# Altium schematic symbol library U_FT232RL.SchLib: 1 symbol
Pins are listed as number, name and electrical type; pins without a type are passive.

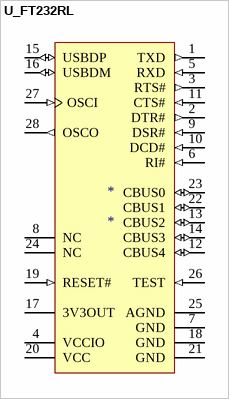
[diagram p0: symbol U_FT232RL]

## U_FT232RL
designator *
pins: 1 TXD (out) "Transmit Asynchronous Data Output", 2 DTR# (out) "Data Terminal Ready Control Output / Handshake signal", 3 RTS# (out) "Request To Send Control Output / Handshake signal", 4 VCCIO (power) "+1.8V to +5.25V supply to the UART Interface and CBUS group pins", 5 RXD (in) "Receive Asynchronous Data Input", 6 RI# (in) "Ring Indicator Control Input. When remote wake up is enabled in the internal EEPROM taking RI# low can be used to resume the PC USB host controller from suspend.", 7 GND (power) "Device ground supply pins", 8 NC "No internal connection", 9 DSR# (in) "Data Set Ready Control Input / Handshake signal", 10 DCD# (in) "Data Carrier Detect Control input", 11 CTS# (in) "Clear to Send Control input / Handshake signal", 12 CBUS4 (io) "Con?gurable CBUS I/O Pin. Function of this pin is con?gured in the device internal EEPROM", 13 CBUS2 (io) "Con?gurable CBUS I/O Pin. Function of this pin is con?gured in the device internal EEPROM", 14 CBUS3 (io) "Con?gurable CBUS I/O Pin. Function of this pin is con?gured in the device internal EEPROM", 15 USBDP (io) "USB Data Signal Plus, incorporating internal series resistor and 1.5k ohm pull up resistor to 3.3V", 16 USBDM (io) "USB Data Signal Minus, incorporating internal series resistor", 17 3V3OUT (power) "3.3V output from integrated L.D.O. regulator", 18 GND (power) "Device ground supply pins", 19 RESET# (in) "Can be used by an external device to reset the FT232R", 20 VCC (power) "3.3V to 5.25V supply to the device core", 21 GND (power) "Device ground supply pins", 22 CBUS1 (io) "Con?gurable CBUS I/O Pin. Function of this pin is con?gured in the device internal EEPROM", 23 CBUS0 (io) "Con?gurable CBUS I/O Pin. Function of this pin is con?gured in the device internal EEPROM", 24 NC "No internal connection", 25 AGND (power) "Device analog ground supply for internal clock multiplier", 26 TEST (in) "Puts the device into I.C. test mode. Must be tied to GND for normal operation", 27 OSCI (in) "Input to 12MHz Oscillator Cell. Optional - Can be left unconnected for normal operation", 28 OSCO (out) "Output from 12MHz Oscillator Cell. Optional - Can be left unconnected for normal operation if internal oscillator is used"